# EAGLE library part ATTINY*313 (library MyParts)
8-bit Microcontroller with 2/4K Bytes In-System Programmable Flash
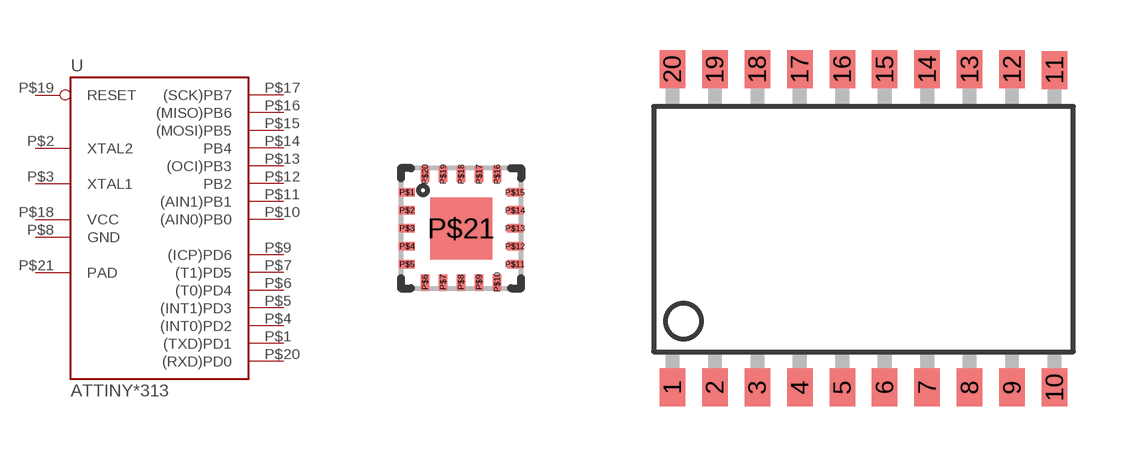
[diagram p20: symbol with the pads of 20M2; footprints 20M2, SO20L]

Designator prefix -

## ATTINY2313-MMH (DIGIKEY_PN: ATTINY2313A-MMH-ND), ATTINY4313-MMH  [20M2]
P$1  (TXD)PD1  out
P$2  XTAL2
P$3  XTAL1
P$4  (INT0)PD2
P$5  (INT1)PD3
P$6  (T0)PD4
P$7  (T1)PD5
P$8  GND  pwr
P$9  (ICP)PD6
P$10  (AIN0)PB0
P$11  (AIN1)PB1
P$12  PB2
P$13  (OCI)PB3
P$14  PB4
P$15  (MOSI)PB5
P$16  (MISO)PB6
P$17  (SCK)PB7
P$18  VCC  pwr
P$19  RESET
P$20  (RXD)PD0  in
P$21  PAD

## ATTINY2313-SU (DIGIKEY_PN: ATTINY2313-20SU-ND), ATTINY4313-SU (DIGIKEY_PN: ATTINY4313-SU-ND)  [SO20L]
1  RESET
2  (RXD)PD0  in
3  (TXD)PD1  out
4  XTAL2
5  XTAL1
6  (INT0)PD2
7  (INT1)PD3
8  (T0)PD4
9  (T1)PD5
10  GND  pwr
11  (ICP)PD6
12  (AIN0)PB0
13  (AIN1)PB1
14  PB2
15  (OCI)PB3
16  PB4
17  (MOSI)PB5
18  (MISO)PB6
19  (SCK)PB7
20  VCC  pwr

## ATTINY2313-MU (DIGIKEY_PN: ATTINY2313A-MU-ND), ATTINY4313-MU (DIGIKEY_PN: ATTINY4313-MU-ND)  [20M1]
P$1  (TXD)PD1  out
P$2  XTAL2
P$3  XTAL1
P$4  (INT0)PD2
P$5  (INT1)PD3
P$6  (T0)PD4
P$7  (T1)PD5
P$8  GND  pwr
P$9  (ICP)PD6
P$10  (AIN0)PB0
P$11  (AIN1)PB1
P$12  PB2
P$13  (OCI)PB3
P$14  PB4
P$15  (MOSI)PB5
P$16  (MISO)PB6
P$17  (SCK)PB7
P$18  VCC  pwr
P$19  RESET
P$20  (RXD)PD0  in
PAD  PAD

## Footprint 20M2 (pad centres in mm)
20-pad, 3 x 3 x 0.85 mm Body, Very Thin Quad Flat No Lead Package (VQFN)
smd 0.4 x 0.22: P$1 -1.35,0.9; P$2 -1.35,0.45; P$3 -1.35,0; P$4 -1.35,-0.45; P$5 -1.35,-0.9; P$11 1.35,-0.9; P$12 1.35,-0.45; P$13 1.35,0; P$14 1.35,0.45; P$15 1.35,0.9
smd 0.22 x 0.4: P$6 -0.9,-1.35; P$7 -0.45,-1.35; P$8 0,-1.35; P$9 0.45,-1.35; P$10 0.9,-1.35; P$16 0.9,1.35; P$17 0.45,1.35; P$18 0,1.35; P$19 -0.45,1.35; P$20 -0.9,1.35
smd 1.55 x 1.55: P$21 0,0

## Footprint SO20L (pad centres in mm)
20-lead, 0.300" Wide, Plastic Gull Wing Small Outline Package (SOIC)
smd 0.762 x 1.143: 1 -5.08,-5.131; 2 -3.81,-5.131; 3 -2.54,-5.131; 4 -1.27,-5.131; 5 0,-5.131; 6 1.27,-5.131; 7 2.54,-5.131; 8 3.81,-5.131; 9 5.08,-5.131; 10 6.35,-5.131; 11 6.35,4.369; 12 5.08,4.394; 13 3.81,4.394; 14 2.54,4.394; 15 1.27,4.394; 16 0,4.394; 17 -1.27,4.394; 18 -2.54,4.394; 19 -3.81,4.394; 20 -5.08,4.394

## Footprint 20M1 (pad centres in mm)
20-pad, 4 x 4 x 0.8 mm Body, Quad Flat No-Lead/Micro Lead Frame Package (MLF)
smd 0.4 x 0.23: P$1 -1.8,1; P$2 -1.8,0.5; P$3 -1.8,0; P$4 -1.8,-0.5; P$5 -1.8,-1; P$11 1.8,-1; P$12 1.8,-0.5; P$13 1.8,0; P$14 1.8,0.5; P$15 1.8,1
smd 0.23 x 0.4: P$6 -1,-1.8; P$7 -0.5,-1.8; P$8 0,-1.8; P$9 0.5,-1.8; P$10 1,-1.8; P$16 1,1.8; P$17 0.5,1.8; P$18 0,1.8; P$19 -0.5,1.8; P$20 -1,1.8
smd 2.6 x 2.6: PAD 0,0